# EAGLE library part SSA22/DPDT (library perspection)
SWITCH SLIDE DPDT 100MA 30V Digi-key Page <http://www.digikey.com/product-detail/en/SSA22/450-1604-ND/1201307>
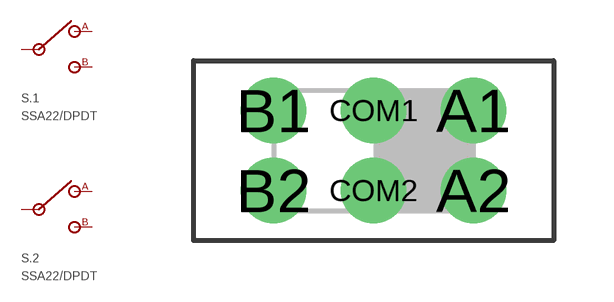
[diagram p15: symbol with the pads of SSA22/DPDT; footprint SSA22/DPDT]

Designator prefix S; gates .1=SPDT .2=SPDT

## SSA22/DPDT (DIST_NAME: Digi-Key; DIST_PN: 450-1604-ND; MFG_NAME: TE Connectivity Alcoswitch Switches; MFG_PN: SSA22)  [SSA22/DPDT]
A1  .1:1
A2  .2:1
B1  .1:3
B2  .2:3
COM1  .1:2
COM2  .2:2

## Footprint SSA22/DPDT (pad centres in mm)
drill 1.092: A1 2.5,1; A2 2.5,-1; B1 -2.5,1; B2 -2.5,-1; COM1 0,1; COM2 0,-1